# Altium schematic symbol library RUS-15Pin.SchLib: 1 symbol
Pins are listed as number, name and electrical type; pins without a type are passive.

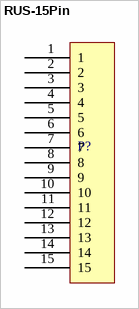
[diagram p0: symbol RUS-15Pin]

## RUS-15Pin
designator P?, comment OK  (value not drawn)
Connector -RUS 15 Pin Male Plug
pins: 1, 2, 3, 4, 5, 6, 7, 8, 9, 10, 11, 12, 13, 14, 15